# EAGLE library part TLP627-2 (library TLP627-2)
Optoisolator Output Channel Check availability <https://pricing.snapeda.com/parts/TLP627-2/Toshiba/view-part?ref=eda>
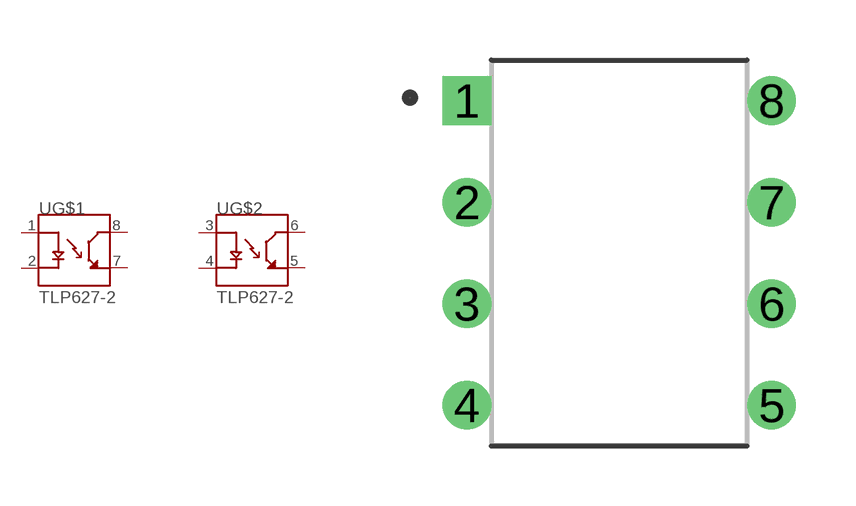
[diagram p0: symbol with the pads of DIP762W50P254L966H455Q8; footprint DIP762W50P254L966H455Q8]

Designator prefix U; gates G$1=TLP627-2_SECTION1 G$2=TLP627-2_SECTION2

## TLP627-2 (Availability: In Stock; Description: Optoisolator Output Channel; MF: Toshiba; MP: TLP627-2; Package: DIP-8 Toshiba; Price: None; Purchase-URL: https://pricing.snapeda.com/search/part/TLP627-2/?ref=eda)  [DIP762W50P254L966H455Q8]
1  G$1:A1  pas
2  G$1:C1  pas
3  G$2:A2  pas
4  G$2:C2  pas
5  G$2:ET2  pas
6  G$2:CT2  pas
7  G$1:ET1  pas
8  G$1:CT1  pas

## Footprint DIP762W50P254L966H455Q8 (pad centres in mm)
Dual In Line Package
drill 0.71 pad 1.11 square: 1 -3.81,3.81
drill 0.71 pad 1.11: 2 -3.81,1.27; 3 -3.81,-1.27; 4 -3.81,-3.81; 5 3.81,-3.81; 6 3.81,-1.27; 7 3.81,1.27; 8 3.81,3.81